# Altium schematic symbol library LSF0204PW-Q100J.SchLib: 1 symbol
Pins are listed as number, name and electrical type; pins without a type are passive.

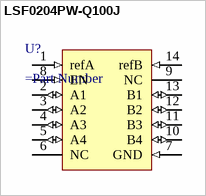
[diagram p0: symbol LSF0204PW-Q100J]

## LSF0204PW-Q100J
designator U?
=Description
pins: 1 refA (in), 2 A1 (io), 3 A2 (io), 4 A3 (io), 5 A4 (io), 6 NC (hiz), 7 GND (in), 8 EN (in), 9 NC (hiz), 10 B4 (io), 11 B3 (io), 12 B2 (io), 13 B1 (io), 14 refB (in)